# Altium footprint library 2020-02-13_23-38-10.PcbLib: 3 footprints
Each footprint in its own frame and in the unit in brackets; x right, y up, seen from the top. Pads: shape width x height; smd on the part's side, far side on the other; paste and mask are expansions set on the pad; w line width, h text height; cw(c..) or ccw(c..) is an arc to the next point about the centre after c.
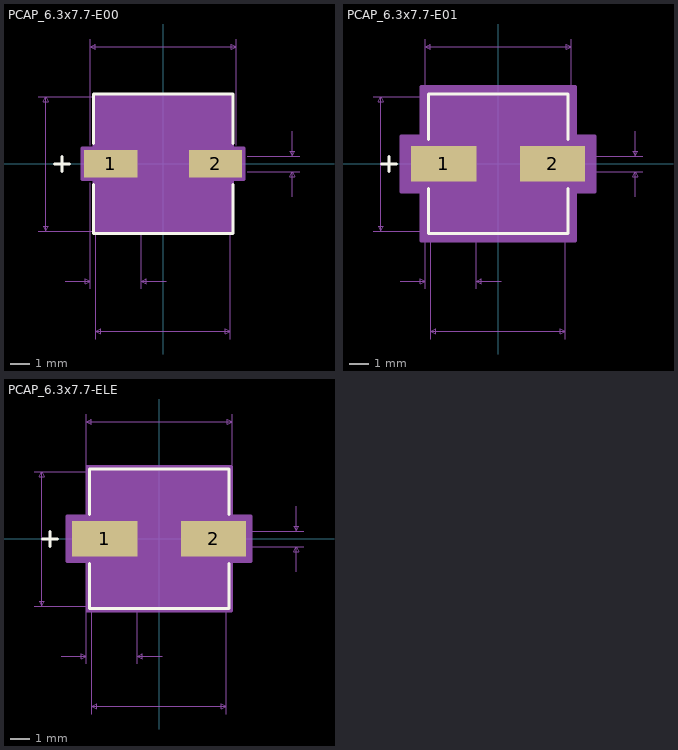
[diagram p0: the footprints below, top view; thin cyan lines are the x and y axes]

## PCAP_6.3x7.7-E00 [mil]
pads (2):
  rect 106x55 smd paste+0 mask+0: 1(-104.5,0) 2(104.5,0)
Top Overlay:
  lines w6: -216.5,0 -186.5,0 ; -201.5,-15 -201.5,15 ; -139,-40.6 -139,-139 139,-139 139,-40.6 ; -139,40.6 -139,139 139,139 139,40.6
Mechanical 7:
  lines w1: -249,-134 -134,-134 -134,-349 ; -249,134 -134,134 ; -195.5,-234 -145.5,-234 ; -145.5,-249 -145.5,-37.5 ; -145.5,37.5 -145.5,249 ; -43.5,-249 -43.5,-17.5 ; 6.5,-234 -43.5,-234 ; 134,-349 134,-134 ; 145.5,37.5 145.5,249 ; 167.5,-15.5 272.5,-15.5 ; 167.5,15.5 272.5,15.5 ; 257.5,-65.5 257.5,-15.5 ; 257.5,65.5 257.5,15.5 ; -234,-134 -229,-124 -239,-124 -234,-134 ; -234,-134 -234,134 ; -234,134 -229,124 -239,124 -234,134 ; -145.5,-234 -155.5,-239 -155.5,-229 -145.5,-234 ; -145.5,234 -135.5,229 -135.5,239 -145.5,234 ; -145.5,234 145.5,234 ; -134,-334 -124,-339 -124,-329 -134,-334 ; -134,-334 134,-334 ; -43.5,-234 -33.5,-239 -33.5,-229 -43.5,-234 ; 134,-334 124,-339 124,-329 134,-334 ; 145.5,234 135.5,229 135.5,239 145.5,234 ; 257.5,-15.5 262.5,-25.5 252.5,-25.5 257.5,-15.5 ; 257.5,15.5 262.5,25.5 252.5,25.5 257.5,15.5
  text "0.268in/6.807mm" at -93.75,-379 h25
  text "0.102in/2.591mm" at -188.25,-279 h25
  text "0.268in/6.807mm" at -441.5,-12.5 h25
  text "0.291in/7.391mm" at -93.75,254 h25
  text "0.031in/0.787mm" at 277.5,-12.5 h25
  text "Alternate 2 Padstyle: OX90Y60D30P" at -412.5,-647.5 h50
  text "Alternate 1 Padstyle: OX60Y90D30P" at -412.5,-547.5 h50
  text "Default Padstyle: RX106Y55D0T" at -362.5,-447.5 h50
Mechanical 13:
  lines w1: -216.5,0 -186.5,0 ; -201.5,-15 -201.5,15 ; -134,-67 -67,-134 ; -134,67 -67,134 ; -134,-134 -134,134 134,134 134,-134 -134,-134
Mechanical 15:
  region: -138,-31.5 -161.5,-31.5 -161.5,31.5 -138,31.5 -138,138 138,138 138,31.5 161.5,31.5 161.5,-31.5 138,-31.5 138,-138 -138,-138
  lines w6: -161.5,-31.5 -138,-31.5 -138,-138 138,-138 138,-31.5 161.5,-31.5 161.5,31.5 138,31.5 138,138 -138,138 -138,31.5 -161.5,31.5 -161.5,-31.5
3D body: height 10, standoff 0, extent 0,0 10,10

## PCAP_6.3x7.7-E01 [mil]
pads (2):
  rect 130x71 smd paste+0 mask+0: 1(-108.5,0) 2(108.5,0)
Top Overlay:
  lines w6: -232.5,0 -202.5,0 ; -217.5,-15 -217.5,15 ; -139,-48.6 -139,-139 139,-139 139,-48.6 ; -139,48.6 -139,139 139,139 139,48.6
Mechanical 7:
  lines w1: -249,-134 -134,-134 -134,-349 ; -249,134 -134,134 ; -195.5,-234 -145.5,-234 ; -145.5,-249 -145.5,-45.5 ; -145.5,45.5 -145.5,249 ; -43.5,-249 -43.5,-25.5 ; 6.5,-234 -43.5,-234 ; 134,-349 134,-134 ; 145.5,45.5 145.5,249 ; 183.5,-15.5 288.5,-15.5 ; 183.5,15.5 288.5,15.5 ; 273.5,-65.5 273.5,-15.5 ; 273.5,65.5 273.5,15.5 ; -234,-134 -234,134 ; -234,-134 -239,-124 -229,-124 -234,-134 ; -234,134 -239,124 -229,124 -234,134 ; -145.5,-234 -155.5,-229 -155.5,-239 -145.5,-234 ; -145.5,234 145.5,234 ; -145.5,234 -135.5,239 -135.5,229 -145.5,234 ; -134,-334 134,-334 ; -134,-334 -124,-329 -124,-339 -134,-334 ; -43.5,-234 -33.5,-229 -33.5,-239 -43.5,-234 ; 134,-334 124,-329 124,-339 134,-334 ; 145.5,234 135.5,239 135.5,229 145.5,234 ; 273.5,-15.5 268.5,-25.5 278.5,-25.5 273.5,-15.5 ; 273.5,15.5 268.5,25.5 278.5,25.5 273.5,15.5
  text "Default Padstyle: RX130Y71D0T" at -362.5,-439.5 h50
  text "Alternate 1 Padstyle: OX60Y90D30P" at -412.5,-539.5 h50
  text "Alternate 2 Padstyle: OX90Y60D30P" at -412.5,-639.5 h50
  text "0.031in/0.787mm" at 293.5,-12.5 h25
  text "0.291in/7.391mm" at -93.75,254 h25
  text "0.268in/6.807mm" at -441.5,-12.5 h25
  text "0.102in/2.591mm" at -188.25,-279 h25
  text "0.268in/6.807mm" at -93.75,-379 h25
Mechanical 13:
  lines w1: -232.5,0 -202.5,0 ; -217.5,-15 -217.5,15 ; -134,-67 -67,-134 ; -134,67 -67,134 ; -134,-134 134,-134 134,134 -134,134 -134,-134
Mechanical 15:
  region: -154,-55.5 -193.5,-55.5 -193.5,55.5 -154,55.5 -154,154 154,154 154,55.5 193.5,55.5 193.5,-55.5 154,-55.5 154,-154 -154,-154
  lines w6: -193.5,-55.5 -193.5,55.5 -154,55.5 -154,154 154,154 154,55.5 193.5,55.5 193.5,-55.5 154,-55.5 154,-154 -154,-154 -154,-55.5 -193.5,-55.5
3D body: height 10, standoff 0, extent 0,0 10,10

## PCAP_6.3x7.7-ELE [mil]
pads (2):
  rect 130x71 smd paste+0 mask+0: 1(-108.5,0) 2(108.5,0)
Top Overlay:
  lines w6: -232.5,0 -202.5,0 ; -217.5,-15 -217.5,15 ; -139,-48.6 -139,-139 139,-139 139,-48.6 ; -139,48.6 -139,139 139,139 139,48.6
Mechanical 7:
  lines w1: -249,-134 -134,-134 -134,-349 ; -249,134 -134,134 ; -195.5,-234 -145.5,-234 ; -145.5,-249 -145.5,-45.5 ; -145.5,45.5 -145.5,249 ; -43.5,-249 -43.5,-25.5 ; 6.5,-234 -43.5,-234 ; 134,-349 134,-134 ; 145.5,45.5 145.5,249 ; 183.5,-15.5 288.5,-15.5 ; 183.5,15.5 288.5,15.5 ; 273.5,-65.5 273.5,-15.5 ; 273.5,65.5 273.5,15.5 ; -234,-134 -234,134 ; -234,-134 -239,-124 -229,-124 -234,-134 ; -234,134 -239,124 -229,124 -234,134 ; -145.5,-234 -155.5,-229 -155.5,-239 -145.5,-234 ; -145.5,234 145.5,234 ; -145.5,234 -135.5,239 -135.5,229 -145.5,234 ; -134,-334 134,-334 ; -134,-334 -124,-329 -124,-339 -134,-334 ; -43.5,-234 -33.5,-229 -33.5,-239 -43.5,-234 ; 134,-334 124,-329 124,-339 134,-334 ; 145.5,234 135.5,239 135.5,229 145.5,234 ; 273.5,-15.5 268.5,-25.5 278.5,-25.5 273.5,-15.5 ; 273.5,15.5 268.5,25.5 278.5,25.5 273.5,15.5
  text "Default Padstyle: RX130Y71D0T" at -362.5,-439.5 h50
  text "Alternate 1 Padstyle: OX60Y90D30P" at -412.5,-539.5 h50
  text "Alternate 2 Padstyle: OX90Y60D30P" at -412.5,-639.5 h50
  text "0.031in/0.787mm" at 293.5,-12.5 h25
  text "0.291in/7.391mm" at -93.75,254 h25
  text "0.268in/6.807mm" at -441.5,-12.5 h25
  text "0.102in/2.591mm" at -188.25,-279 h25
  text "0.268in/6.807mm" at -93.75,-379 h25
Mechanical 13:
  lines w1: -232.5,0 -202.5,0 ; -217.5,-15 -217.5,15 ; -134,-67 -67,-134 ; -134,67 -67,134 ; -134,-134 134,-134 134,134 -134,134 -134,-134
Mechanical 15:
  region: -144,-45.5 -183.5,-45.5 -183.5,45.5 -144,45.5 -144,144 144,144 144,45.5 183.5,45.5 183.5,-45.5 144,-45.5 144,-144 -144,-144
  lines w6: -183.5,-45.5 -183.5,45.5 -144,45.5 -144,144 144,144 144,45.5 183.5,45.5 183.5,-45.5 144,-45.5 144,-144 -144,-144 -144,-45.5 -183.5,-45.5
3D body: height 10, standoff 0, extent 0,0 10,10